# Altium schematic symbol library SchParts.SchLib: 39 symbols
Pins are listed as number, name and electrical type; pins without a type are passive.

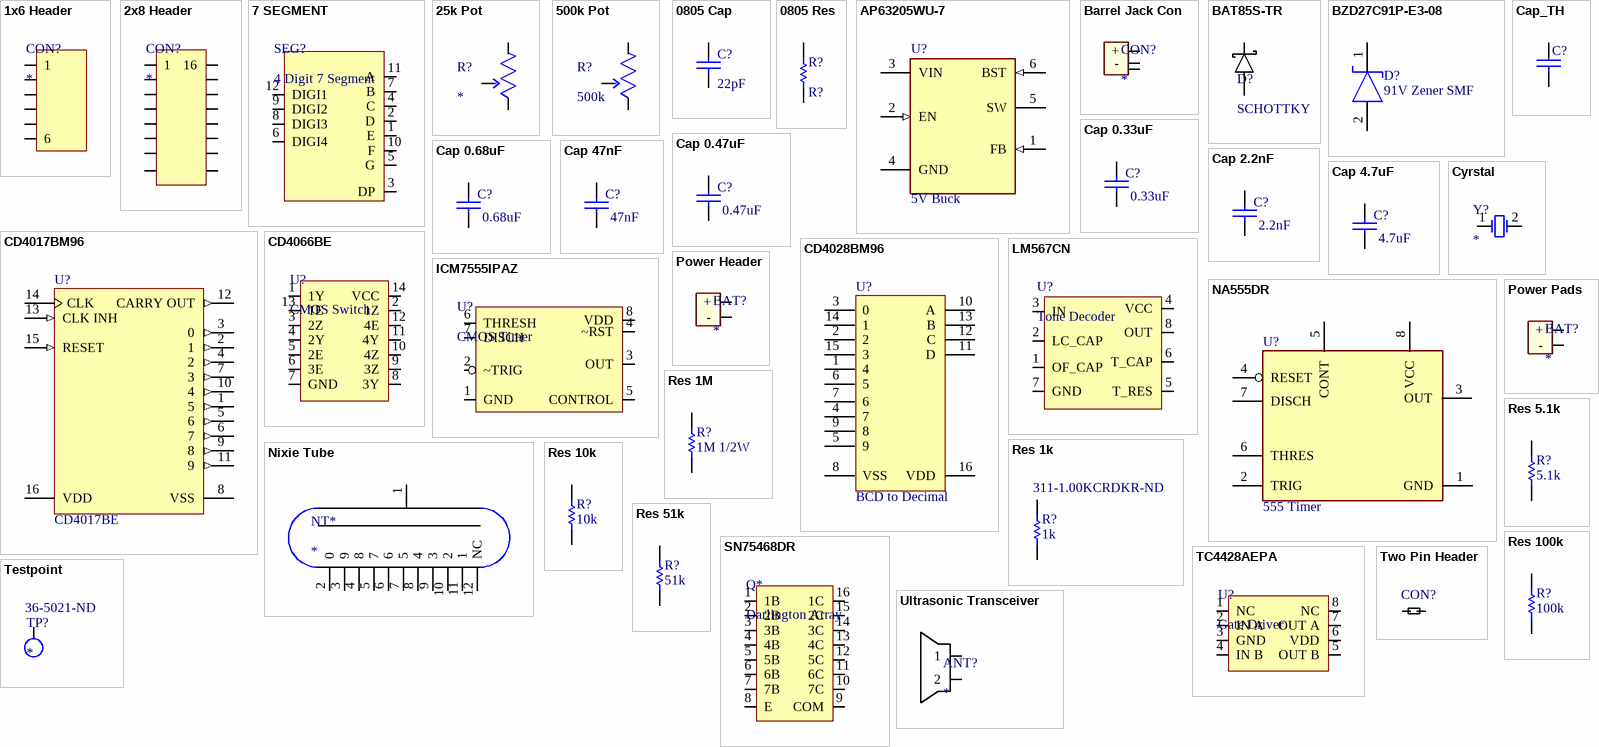
[diagram p0: symbols 1x6 Header to Ultrasonic Transceiver]

## 1x6 Header
designator CON?
footprint 1x6 Header
pins: 1, 2, 3, 4, 5, 6

## 2x8 Header
designator CON?
footprint 2x8 HEADER
pins: 1, 2, 3, 4, 5, 6, 7, 8, 9, 10, 11, 12, 13, 14, 15, 16

## 7 SEGMENT
designator SEG?, comment 4 Digit 7 Segment
pins: 1 E, 2 D, 3 DP, 4 C, 5 G, 6 DIGI4, 7 B, 8 DIGI3, 9 DIGI2, 10 F, 11 A, 12 DIGI1

## 25k Pot
designator R?
25k Potentiometer
footprint THREE PIN HEADER
pins: 1 CCW, 2 WIPER, 3 CW

## 500k Pot
designator R?, comment 500k
500k Pot; Supplier 1: Mouser; Supplier 2: Digi-Key
footprint THREE PIN HEADER
pins: 1 CCW, 2 WIPER, 3 CW

## 0805 Cap
designator C?  value 22pF
Capacitor 0805 SMD; Published: 8-Jun-2000; LatestRevisionDate: 17-Jul-2002; LatestRevisionNote: Re-released for DXP Platform.; PackageReference: RAD-0.3; Publisher: Altium Limited; PackageDescription: Radial Cap, Thru-Hole; 2 Leads; 0.3 in Pin Spacing
simulation model CAP (Capacitor)
signal-integrity model Cap
footprint 0805
pins: 1, 2

## 0805 Res
designator R?  value R?
Resistor SMD 0805; Published: 8-Jun-2000; LatestRevisionDate: 17-Jul-2002; LatestRevisionNote: Re-released for DXP Platform.; PackageReference: AXIAL-0.3; Publisher: Altium Limited; PackageDescription: Axial Device, Thru-Hole; 2 Leads; 0.3 in Pin Spacing
simulation model RESISTOR (Resistor)
signal-integrity model Res
footprint 0805
pins: 1, 2

## AP63205WU-7
designator U?, comment 5V Buck
IC REG BUCK 5V 2A TSOT26; Manufacturer: Diodes Inc.; Manufacturer Part Number: AP63205WU-7; Max Junction Temp: +160°C; Max Duty Cycle: 100%; Standoff Height: 0.01mm; Max Supply Voltage: 32V; Number Of Outputs: 1; Min Supply Voltage: 3.8V; Output Type: Fixed; Switching Frequency: 1100kHz; Nominal Supply Current: 22uA; Automotive: No; RoHS: TRUE; Switching Topology: Buck; Temperature: -40°C to +85°C; Footprint Url: https://www.diodes.com/assets/Package-Files/TSOT26.pdf; Lead Free: Yes; Digikey Description: IC REG BUCK 5V 2A TSOT26; Device Class L3: Voltage Regulators - Switching; Ambient Temperature Range High: +85°C; Category: IC; Package: TSOT26; Output Voltage: 5V; Output Current: 2A; ComponentLink2Description: Datasheet; Device Class L2: Power Management ICs; Ambient Temperature Range Low: -40°C; Temperature Range High: +85°C; Temperature Range Low: -40°C; Octopart: https://octopart.com/ap63205wu-7-diodes+inc.-98099551; Height: 1mm; Device Class L1: Integrated Circuits (ICs); ComponentLink2URL: https://www.diodes.com/assets/Datasheets/AP63200-AP63201-AP63203-AP63205.pdf
footprint TSOT26
pins: 1 FB (in), 2 EN (in), 3 VIN (power), 4 GND (power), 5 SW (power), 6 BST (in)

## Barrel Jack Con
designator CON?
48V, 6A, 2mm Dia; Manufacturer: Tensility; Manufacturer Part Number: 54-00166; Supplier: Digikey; Supplier Part Number: 839-54-00166-ND; RoHS: Yes; Category: Connectors; Stock: 35927; Pricing: 1=0.74, 10=0.648, 25=0.5924, 40=0.5575, 80=0.53425, 230=0.48783, 500=0.4646, 1000=0.3833, 2500=0.34845 (USD); Supplier 1: Digikey; Supplier Part Number 1: 839-54-00166-ND
footprint Power Barrel Jack
pins: 1     + (power), 2 - (power), 3

## BAT85S-TR
designator D?, comment SCHOTTKY
DIODE SCHOTTKY 30V 200MA DO35
footprint Diode TH
pins: 1, 2

## BZD27C91P-E3-08
designator D?, comment 91V Zener SMF
Zener Diode 91 V 800 mW Surface Mount DO-219AB (SMF); Element Configuration: Single; Operating Supply Voltage: 15V; Number of Channels: 1; Clamping Voltage-Max: 24.4V; Max Breakdown Voltage: 16.7V; Capacitance: 350pF; Test Current: 1mA; Direction: Unidirectional; ESD Protection: Yes; Leakage Current: 1uA; Max Power Dissipation: 200W; Peak Pulse Current: 8.2A; Peak Pulse Power: 1kW; Number of Pins: 2; Mount: Surface Mount; Depth: 1.9mm; Height: 0.043inch; Package Quantity: 3000; Packaging: Tape and Reel; Radiation Hardening: No; Width: 0.075inch; Reverse Breakdown Voltage: 16.7V; Min Operating Temperature: -55°C; Reverse Standoff Voltage: 15V; Case/Package: DO-219AB; Clamping Voltage: 24.4V; Polarity: Unidirectional; Length: 2.9mm; Working Voltage: 15V; Breakdown Voltage: 16.7V; Max Operating Temperature: 150°C; Lead Free: Lead Free; Number of Elements: 1; Series: SFMxxA; Termination: SMD/SMT
footprint SMF - Diode
pins: 1 C, 2 A

## Cap 0.33uF
designator C?, comment 0.33uF
Capacitor 0.33uF 0805 SMD; Published: 8-Jun-2000; LatestRevisionDate: 17-Jul-2002; LatestRevisionNote: Re-released for DXP Platform.; PackageReference: RAD-0.3; Publisher: Altium Limited; PackageDescription: Radial Cap, Thru-Hole; 2 Leads; 0.3 in Pin Spacing; Value: 0.33uF; Supplier 1: Digi-Key; Supplier Part Number 1: 1276-1123-1-ND
simulation model CAP (Capacitor)
signal-integrity model Cap
footprint 0805
pins: 1, 2

## Cap 0.47uF
designator C?, comment 0.47uF
Capacitor 0.47uF 0805 SMD; Published: 8-Jun-2000; LatestRevisionDate: 17-Jul-2002; LatestRevisionNote: Re-released for DXP Platform.; PackageReference: RAD-0.3; Publisher: Altium Limited; PackageDescription: Radial Cap, Thru-Hole; 2 Leads; 0.3 in Pin Spacing; Value: 0.47uF; Supplier 1: Digi-Key; Supplier Part Number 1: 490-3328-1-ND
simulation model CAP (Capacitor)
signal-integrity model Cap
footprint 0805
pins: 1, 2

## Cap 0.68uF
designator C?, comment 0.68uF
Capacitor 0.68uF 0805 SMD; Published: 8-Jun-2000; LatestRevisionDate: 17-Jul-2002; LatestRevisionNote: Re-released for DXP Platform.; PackageReference: RAD-0.3; Publisher: Altium Limited; PackageDescription: Radial Cap, Thru-Hole; 2 Leads; 0.3 in Pin Spacing; Value: 0.68uF; Supplier 1: Digi-Key; Supplier Part Number 1: 1276-2976-1-ND
simulation model CAP (Capacitor)
signal-integrity model Cap
footprint 0805
pins: 1, 2

## Cap 2.2nF
designator C?, comment 2.2nF
Capacitor 2.2nF 0805 SMD; Published: 8-Jun-2000; LatestRevisionDate: 17-Jul-2002; LatestRevisionNote: Re-released for DXP Platform.; PackageReference: RAD-0.3; Publisher: Altium Limited; PackageDescription: Radial Cap, Thru-Hole; 2 Leads; 0.3 in Pin Spacing; Value: 2.2nF; Supplier 1: Digi-Key; Supplier Part Number 1: 399-C0805C222K3GEC7800CT-ND
simulation model CAP (Capacitor)
signal-integrity model Cap
footprint 0805
pins: 1, 2

## Cap 4.7uF
designator C?, comment 4.7uF
Capacitor 4.7uF 0805 SMD; Published: 8-Jun-2000; LatestRevisionDate: 17-Jul-2002; LatestRevisionNote: Re-released for DXP Platform.; PackageReference: RAD-0.3; Publisher: Altium Limited; PackageDescription: Radial Cap, Thru-Hole; 2 Leads; 0.3 in Pin Spacing; Value: 4.7uF; Supplier 1: Digi-Key
simulation model CAP (Capacitor)
signal-integrity model Cap
footprint 0805
pins: 1, 2

## Cap 47nF
designator C?, comment 47nF
Capacitor 47nF 0805 SMD; Published: 8-Jun-2000; LatestRevisionDate: 17-Jul-2002; LatestRevisionNote: Re-released for DXP Platform.; PackageReference: RAD-0.3; Publisher: Altium Limited; PackageDescription: Radial Cap, Thru-Hole; 2 Leads; 0.3 in Pin Spacing; Value: 47nF; Supplier 1: Digi-Key; Supplier Part Number 1: 399-C0805C473K3GEC7800CT-ND
simulation model CAP (Capacitor)
signal-integrity model Cap
footprint 0805
pins: 1, 2

## Cap_TH
designator C?
Capacitor Through Hole; Published: 8-Jun-2000; LatestRevisionDate: 17-Jul-2002; LatestRevisionNote: Re-released for DXP Platform.; PackageReference: RAD-0.3; Publisher: Altium Limited; PackageDescription: Radial Cap, Thru-Hole; 2 Leads; 0.3 in Pin Spacing
simulation model CAP (Capacitor)
signal-integrity model Cap
footprint Capacitor TH
pins: 1, 2

## CD4017BM96
designator U?, comment CD4017BE
Counter IC Counter, Decade 1 Element 10 Bit Positive, Negative 16-SOIC; Manufacturer: Texas Instruments; Schmitt Trigger: No; Output Type: CMOS; VCC(Max)(V): 18; tpd @ Nom Voltage(Max)(ns): 270; ICC @ Nom Voltage(Max)(mA): 0.03; Output Drive (IOL/IOH)(Max)(mA): 1.5/-1.5; VCC(Min)(V): 3; F @ Nom Voltage(Max)(Mhz): 8; Rating: Military; Technology Family: CD4000; Bits(#): 10; Inputs: 1; Type: Decade; Operating Temperature Range(C): -55 to 125; Code_JEDEC: MS-001; Function: Counter; PackageReference: N0016A; DatasheetVersion: SCHS027C; Input Type: CMOS; Generic Part Number: CD4017B; Voltage(Nom)(V): 10
footprint 16-SOIC
pins: 1 5 (out), 2 1 (out), 3 0 (out), 4 2 (out), 5 6 (out), 6 7 (out), 7 3 (out), 8 VSS (power), 9 8 (out), 10 4 (out), 11 9 (out), 12 CARRY OUT (out), 13 CLK INH (in), 14 CLK, 15 RESET (in), 16 VDD (power)

## CD4028BM96
designator U?, comment BCD to Decimal
CMOS BCD-to-Decimal or Binary-to-Octal Decoders/Drivers, D0016A, LARGE T&R; Generic Part Number: CD4028B; Manufacturer: Texas Instruments; Technology Family: CD4000; Function: Decoder/Demultiplexer; Configuration: 4：10; Channels(#): 1; F @ Nom Voltage(Max)(Mhz): 8; Voltage(Nom)(V): 5,10,15; tpd @ Nom Voltage(Max)(ns): 160; Rating: Catalog; Schmitt Trigger: No; Output Drive (IOL/IOH)(Max)(mA): 1.5/-1.5; VCC(Max)(V): 18; Bits(#): 10; VCC(Min)(V): 3; ICC @ Nom Voltage(Max)(mA): 0.3; PackageReference: D0016A; Output Type: CMOS; Operating Temperature Range(C): -55 to 125; Code_JEDEC: MS-012 variation AC; Input Type: CMOS; Type: Standard; DatasheetVersion: SCHS033C
pins: 1 4, 2, 3 0, 4 7, 5 9, 6 5, 7 6, 8 VSS, 9 8, 10 A, 11 D, 12 C, 13 B, 14 1, 15 3, 16 VDD

## CD4066BE
designator U?, comment CMOS Switch
4 Circuit IC Switch 1:1 240Ohm 14-PDIP
footprint DIP16
pins: 1 1Y, 2 1Z, 3 2Z, 4 2Y, 5 2E, 6 3E, 7 GND, 8 3Y, 9 3Z, 10 4Z, 11 4Y, 12 4E, 13 1E, 14 VCC

## Cyrstal
designator Y?
footprint Crystal
pins: 1, 2

## ICM7555IPAZ
designator U?, comment CMOS Timer
555 Type, Timer/Oscillator (Single) IC 1MHz 8-PDIP
footprint DIP8
pins: 1 GND, 2 ~TRIG, 3 OUT, 4 ~RST, 5 CONTROL, 6 THRESH, 7 DISCH, 8 VDD

## LM567CN
designator U?, comment Tone Decoder
tone detector (PLL), 3.5 - 8.5V recom
footprint DIP8
pins: 1 OF_CAP, 2 LC_CAP, 3 IN, 4 VCC, 5 T_RES, 6 T_CAP, 7 GND, 8 OUT

## NA555DR
designator U?, comment 555 Timer
555 Type, Timer/Oscillator (Single) IC 100kHz 8-SOIC; Number of Timers/Counters: 1; Min Supply Voltage: 4.5V; Quiescent Current: 15mA; Nominal Supply Current: 2mA; Max Supply Voltage: 16V; Low Level Output Current: 200mA; Operating Supply Current: 10mA; High Level Output Current: -200mA; Height: 1.58mm; Max Operating Temperature: 70°C; Case/Package: SOIC; Package Quantity: 2500; RoHS Compliant: Yes; Min Operating Temperature: 0°C; Frequency: 100kHz; Width: 3.91mm; Mount: Surface Mount; Number of Pins: 8; Packaging: Tape and Reel; Supply Current: 2mA; Length: 4.9mm; Series: -; Weight: 0.002561oz; Radiation Hardening: No; Lead Free: Lead Free
footprint 8-SOIC
pins: 1 GND (power), 2 TRIG, 3 OUT, 4 RESET, 5 CONT, 6 THRES, 7 DISCH, 8 VCC (power)

## Nixie Tube
designator NT*
footprint IN-12A Nixie
footprint IN-1 NIXIE
footprint 2x6 Header
pins: 1, 2 0, 3 9, 4 8, 5 7, 6, 7 5, 8 4, 9 3, 10 2, 11 1, 12 NC

## Power Header
designator BAT?
Power Header
footprint TWO PIN HEADER POWER
pins: 1   + (power), 2 - (power)

## Power Pads
designator BAT?
Power Connections with Pads
footprint Power Pads
pins: 1   + (power), 2 - (power)

## Res 1k
designator R?, comment 1k  Supplier Part Number 1: 311-1.00KCRDKR-ND
Resistor 1k SMD 0805; Value: 5.1k; Published: 8-Jun-2000; LatestRevisionDate: 17-Jul-2002; LatestRevisionNote: Re-released for DXP Platform.; PackageReference: AXIAL-0.3; Publisher: Altium Limited; PackageDescription: Axial Device, Thru-Hole; 2 Leads; 0.3 in Pin Spacing; Supplier 1: Digikey
simulation model RESISTOR (Resistor)
signal-integrity model Res
footprint 0805
pins: 1, 2

## Res 1M
designator R?, comment 1M 1/2W
Resistor 1M 1/2W SMD 0805; Value: 100k; Published: 8-Jun-2000; LatestRevisionDate: 17-Jul-2002; LatestRevisionNote: Re-released for DXP Platform.; PackageReference: AXIAL-0.3; Publisher: Altium Limited; PackageDescription: Axial Device, Thru-Hole; 2 Leads; 0.3 in Pin Spacing; Supplier 1: Digi-Key
simulation model RESISTOR (Resistor)
signal-integrity model Res
footprint 0805
pins: 1, 2

## Res 5.1k
designator R?, comment 5.1k
Resistor 5.1k SMD 0805; Published: 8-Jun-2000; LatestRevisionDate: 17-Jul-2002; LatestRevisionNote: Re-released for DXP Platform.; PackageReference: AXIAL-0.3; Publisher: Altium Limited; PackageDescription: Axial Device, Thru-Hole; 2 Leads; 0.3 in Pin Spacing; Supplier 1: Digi-Key; Value: 5.1k; Supplier Part Number 1: RMCF0805JT5K10CT-ND
simulation model RESISTOR (Resistor)
signal-integrity model Res
footprint 0805
pins: 1, 2

## Res 10k
designator R?, comment 10k
Resistor 10k SMD 0805; Published: 8-Jun-2000; LatestRevisionDate: 17-Jul-2002; LatestRevisionNote: Re-released for DXP Platform.; PackageReference: AXIAL-0.3; Publisher: Altium Limited; PackageDescription: Axial Device, Thru-Hole; 2 Leads; 0.3 in Pin Spacing; Supplier 1: Digi-Key; Value: 10k; Supplier Part Number 1: RMCF0805JT10K0CT-ND
simulation model RESISTOR (Resistor)
signal-integrity model Res
footprint 0805
pins: 1, 2

## Res 51k
designator R?, comment 51k
Resistor 51k SMD 0805; Published: 8-Jun-2000; LatestRevisionDate: 17-Jul-2002; LatestRevisionNote: Re-released for DXP Platform.; PackageReference: AXIAL-0.3; Publisher: Altium Limited; PackageDescription: Axial Device, Thru-Hole; 2 Leads; 0.3 in Pin Spacing; Value: 51k; Supplier 1: Digi-Key
simulation model RESISTOR (Resistor)
signal-integrity model Res
footprint 0805
pins: 1, 2

## Res 100k
designator R?, comment 100k
Resistor 100k SMD 0805; Published: 8-Jun-2000; LatestRevisionDate: 17-Jul-2002; LatestRevisionNote: Re-released for DXP Platform.; PackageReference: AXIAL-0.3; Publisher: Altium Limited; PackageDescription: Axial Device, Thru-Hole; 2 Leads; 0.3 in Pin Spacing; Supplier 1: Digi-Key; Value: 100k; Supplier Part Number 1: RMCF0805JT100KCT-ND
simulation model RESISTOR (Resistor)
signal-integrity model Res
footprint 0805
pins: 1, 2

## SN75468DR
designator Q*, comment Darlington Array
Bipolar (BJT) Transistor Array 7 NPN Darlington 100V 500mA Surface Mount 16-SOIC
footprint 16-SOIC
pins: 1 1B, 2 2B, 3 3B, 4 4B, 5 5B, 6 6B, 7 7B, 8 E, 9 COM, 10 7C, 11 6C, 12 5C, 13 4C, 14 3C, 15 2C, 16 1C

## TC4428AEPA
designator U?, comment Gate Driver
Gate Drivers 1.5A Dual td Match
footprint PDIP8
pins: 1 NC, 2 IN A (in), 3 GND (power), 4 IN B (in), 5 OUT B (out), 6 VDD (power), 7 OUT A (out), 8 NC

## Testpoint
designator TP?  Supplier Part Number 1: 36-5021-ND
ComponentLink1Description: New link; ComponentLink1URL: https://www.digikey.com/en/products/detail/keystone-electronics/5021/2170334; Supplier 1: Digi-Key
footprint Single TH
pins: 1

## Two Pin Header
designator CON?
footprint TWO PIN HEADER
pins: 1, 2

## Ultrasonic Transceiver
designator ANT?
Ultrasonic Tx-Rx Pair 30V
footprint FOUR PIN HEADER; pin to pad 2>4
pins: 1, 2